# Altium integrated library NSC Converter Voltage to Frequency.IntLib: 6 symbols
Pins are listed as number, name and electrical type; pins without a type are passive.

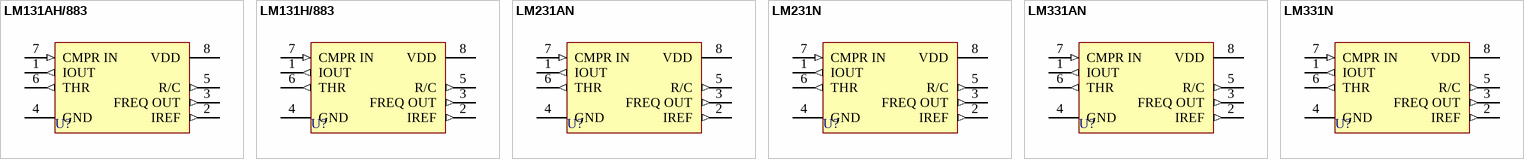
[diagram p0: symbols LM131AH/883 to LM331N]

## LM131AH/883
designator U?
Precision Voltage-to-Frequency Converter; Note: Metal case is connected to pin 4 (Ground); Note: Pin2 can be used as a voltage reference for other components, but care must taken to ensure that current is not taken from it which could reduce the accuracy of the converter; ComponentAvailability: Obsolete; Published: 15-Apr-2002; LatestRevisionDate: 06-Jun-2005; LatestRevisionNote: Stylized 3D Model Added.; PackageVersion: 2000; PackageReference: H08C; Publisher: Altium Limited; PackageDescription: Can; 8 Leads; Pin Circle Dia. 5.08 mm; Lead Dia. 0.48 mm (max); ComponentLink1Description: Manufacturer Link; ComponentLink1URL: http://www.national.com/; ComponentLink2Description: Discontinuation Notice; ComponentLink2URL: http://www.national.com/obs/obsolescence.txt
footprint H08C (Can; 8 Leads; Pin Circle Dia. 5.08 mm; Lead Dia. 0.48 mm (max))
pins: 1 IOUT (out), 2 IREF (out), 3 FREQ OUT (out), 4 GND (power), 5 R/C (out), 6 THR (out), 7 CMPR IN (in), 8 VDD (power)

## LM131H/883
designator U?
Precision Voltage-to-Frequency Converter; Note: Metal case is connected to pin 4 (Ground); Note: Pin2 can be used as a voltage reference for other components, but care must taken to ensure that current is not taken from it which could reduce the accuracy of the converter; ComponentAvailability: Obsolete; Published: 15-Apr-2002; LatestRevisionDate: 06-Jun-2005; LatestRevisionNote: Stylized 3D Model Added.; PackageVersion: 2000; PackageReference: H08C; Publisher: Altium Limited; PackageDescription: Can; 8 Leads; Pin Circle Dia. 5.08 mm; Lead Dia. 0.48 mm (max); ComponentLink1Description: Manufacturer Link; ComponentLink1URL: http://www.national.com/; ComponentLink2Description: Discontinuation Notice; ComponentLink2URL: http://www.national.com/obs/obsolescence.txt
footprint H08C (Can; 8 Leads; Pin Circle Dia. 5.08 mm; Lead Dia. 0.48 mm (max))
pins: 1 IOUT (out), 2 IREF (out), 3 FREQ OUT (out), 4 GND (power), 5 R/C (out), 6 THR (out), 7 CMPR IN (in), 8 VDD (power)

## LM231AN
designator U?
Precision Voltage-to-Frequency Converter; Note: Metal case is connected to pin 4 (Ground); Note: Pin2 can be used as a voltage reference for other components, but care must taken to ensure that current is not taken from it which could reduce the accuracy of the converter; Published: 15-Apr-2002; LatestRevisionDate: 06-Jun-2005; LatestRevisionNote: Stylized 3D Model Added.; DatasheetVersion: Jun-1999; PackageVersion: Sep-1997; PackageReference: N08E; Publisher: Altium Limited; PackageDescription: DIP; 8 Leads; Row Spacing 7.62 mm; Pitch 2.54 mm; ComponentLink1Description: Manufacturer Link; ComponentLink1URL: http://www.national.com/; ComponentLink2Description: Datasheet; ComponentLink2URL: http://www.national.com/ds.cgi/LM/LM231.pdf; ComponentLink3Description: URL Link1; ComponentLink3URL: http://www.national.com/pf/LM/LM231.html
footprint N08E (DIP; 8 Leads; Row Spacing 7.62 mm; Pitch 2.54 mm)
3D model N08E (DIP; 8 Leads; Row Spacing 7.62 mm; Pitch 2.54 mm)
pins: 1 IOUT (out), 2 IREF (out), 3 FREQ OUT (out), 4 GND (power), 5 R/C (out), 6 THR (out), 7 CMPR IN (in), 8 VDD (power)

## LM231N
designator U?
Precision Voltage-to-Frequency Converter; Note: Metal case is connected to pin 4 (Ground); Note: Pin2 can be used as a voltage reference for other components, but care must taken to ensure that current is not taken from it which could reduce the accuracy of the converter; Published: 15-Apr-2002; LatestRevisionDate: 06-Jun-2005; LatestRevisionNote: Stylized 3D Model Added.; DatasheetVersion: Jun-1999; PackageVersion: Sep-1997; PackageReference: N08E; Publisher: Altium Limited; PackageDescription: DIP; 8 Leads; Row Spacing 7.62 mm; Pitch 2.54 mm; ComponentLink1Description: Manufacturer Link; ComponentLink1URL: http://www.national.com/; ComponentLink2Description: Datasheet; ComponentLink2URL: http://www.national.com/ds.cgi/LM/LM231.pdf; ComponentLink3Description: URL Link1; ComponentLink3URL: http://www.national.com/pf/LM/LM231.html
footprint N08E (DIP; 8 Leads; Row Spacing 7.62 mm; Pitch 2.54 mm)
3D model N08E (DIP; 8 Leads; Row Spacing 7.62 mm; Pitch 2.54 mm)
pins: 1 IOUT (out), 2 IREF (out), 3 FREQ OUT (out), 4 GND (power), 5 R/C (out), 6 THR (out), 7 CMPR IN (in), 8 VDD (power)

## LM331AN
designator U?
Precision Voltage-to-Frequency Converter; Note: Metal case is connected to pin 4 (Ground); Note: Pin2 can be used as a voltage reference for other components, but care must taken to ensure that current is not taken from it which could reduce the accuracy of the converter; Published: 15-Apr-2002; LatestRevisionDate: 06-Jun-2005; LatestRevisionNote: Stylized 3D Model Added.; DatasheetVersion: Jun-1999; PackageVersion: Sep-1997; PackageReference: N08E; Publisher: Altium Limited; PackageDescription: DIP; 8 Leads; Row Spacing 7.62 mm; Pitch 2.54 mm; ComponentLink1Description: Manufacturer Link; ComponentLink1URL: http://www.national.com/; ComponentLink2Description: Datasheet; ComponentLink2URL: http://www.national.com/ds.cgi/LM/LM231.pdf; ComponentLink3Description: URL Link1; ComponentLink3URL: http://www.national.com/pf/LM/LM331.html
footprint N08E (DIP; 8 Leads; Row Spacing 7.62 mm; Pitch 2.54 mm)
3D model N08E (DIP; 8 Leads; Row Spacing 7.62 mm; Pitch 2.54 mm)
pins: 1 IOUT (out), 2 IREF (out), 3 FREQ OUT (out), 4 GND (power), 5 R/C (out), 6 THR (out), 7 CMPR IN (in), 8 VDD (power)

## LM331N
designator U?
Precision Voltage-to-Frequency Converter; Note: Metal case is connected to pin 4 (Ground); Note: Pin2 can be used as a voltage reference for other components, but care must taken to ensure that current is not taken from it which could reduce the accuracy of the converter; Published: 15-Apr-2002; LatestRevisionDate: 06-Jun-2005; LatestRevisionNote: Stylized 3D Model Added.; DatasheetVersion: Jun-1999; PackageVersion: Sep-1997; PackageReference: N08E; Publisher: Altium Limited; PackageDescription: DIP; 8 Leads; Row Spacing 7.62 mm; Pitch 2.54 mm; ComponentLink1Description: Manufacturer Link; ComponentLink1URL: http://www.national.com/; ComponentLink2Description: Datasheet; ComponentLink2URL: http://www.national.com/ds.cgi/LM/LM231.pdf; ComponentLink3Description: URL Link1; ComponentLink3URL: http://www.national.com/pf/LM/LM331.html
footprint N08E (DIP; 8 Leads; Row Spacing 7.62 mm; Pitch 2.54 mm)
3D model N08E (DIP; 8 Leads; Row Spacing 7.62 mm; Pitch 2.54 mm)
pins: 1 IOUT (out), 2 IREF (out), 3 FREQ OUT (out), 4 GND (power), 5 R/C (out), 6 THR (out), 7 CMPR IN (in), 8 VDD (power)